# EAGLE library part IC-TPS6303 (library nRF9160-IC)
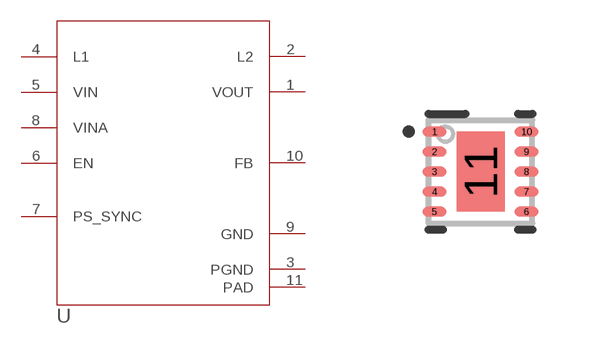
[diagram p5: symbol with the pads of DSK0010A; footprint DSK0010A]

Designator prefix U

## IC-TPS63031DSKR (DESC: IC REG BCK BST 3.3V 900MA 10SON; DIGIKEYPN: 296-39461-1-ND; MF: Texas Instruments; MPN: TPS63031DSKR; PROD_ID: IC-15417)  [DSK0010A]
1  VOUT  pwr
2  L2  pas
3  PGND  pwr
4  L1  pas
5  VIN  pwr
6  EN  in
7  PS_SYNC  in
8  VINA  pwr
9  GND  pwr
10  FB  in
11  PAD  pwr

## Footprint DSK0010A (pad centres in mm)
smd 0.6 x 0.25: 1 -1.15,1; 2 -1.15,0.5; 3 -1.15,0; 4 -1.15,-0.5; 5 -1.15,-1; 6 1.15,-1; 7 1.15,-0.5; 8 1.15,0; 9 1.15,0.5; 10 1.15,1
smd 1.2 x 2: 11 0,0